# Altium schematic symbol library LT8650SEV_PBF.SchLib: 1 symbol
Pins are listed as number, name and electrical type; pins without a type are passive.

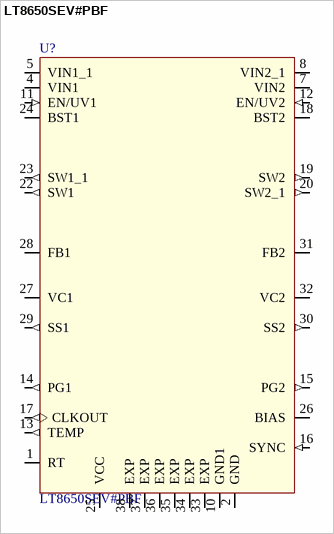
[diagram p0: symbol LT8650SEV#PBF]

## LT8650SEV#PBF
designator U?
Conv DC-DC 3V to 42V Synchronous Step Down Dual-Out 0.8V 4A/4A Automotive 28-Pin LQFN EP Tray; MF: Analog Devices; Digi-Key_Purchase_URL: https://www.digikey.com/product-detail/en/linear-technology-analog-devices/LT8650SEV-PBF/LT8650SEV-PBF-ND/7702365?utm_source=snapeda&utm_medium=aggregator&utm_campaign=symbol; Digi-Key_Part_Number: LT8650SEV#PBF-ND; Package: LQFN -32 Analog Devices; SnapEDA_Link: https://www.snapeda.com/parts/LT8650SEV%23PBF/Analog%20Devices/view-part/4330709/?ref=snap; MP: LT8650SEV#PBF; Value: *
footprint *QFN50P600X400X103-32N240X440
pins: 1 RT, 2 GND (power), 4 VIN1 (power), 5 VIN1_1 (power), 7 VIN2 (power), 8 VIN2_1 (power), 10 GND1 (power), 11 EN/UV1 (in), 12 EN/UV2 (in), 13 TEMP (out), 14 PG1 (out), 15 PG2 (out), 16 SYNC (in), 17 CLKOUT (out), 18 BST2 (io), 19 SW2 (out), 20 SW2_1 (out), 22 SW1 (out), 23 SW1_1 (out), 24 BST1 (io), 25 VCC (power), 26 BIAS (io), 27 VC1 (power), 28 FB1 (io), 29 SS1 (out), 30 SS2 (out), 31 FB2 (io), 32 VC2 (power), 33 EXP (power), 34 EXP (power), 35 EXP (power), 36 EXP (power), 37 EXP (power), 38 EXP (power)